# Altium footprint library WE-HCMD.PcbLib: 2 footprints
Each footprint in its own frame and in the unit in brackets; x right, y up, seen from the top. Pads: shape width x height; smd on the part's side, far side on the other; paste and mask are expansions set on the pad; w line width, h text height; cw(c..) or ccw(c..) is an arc to the next point about the centre after c.
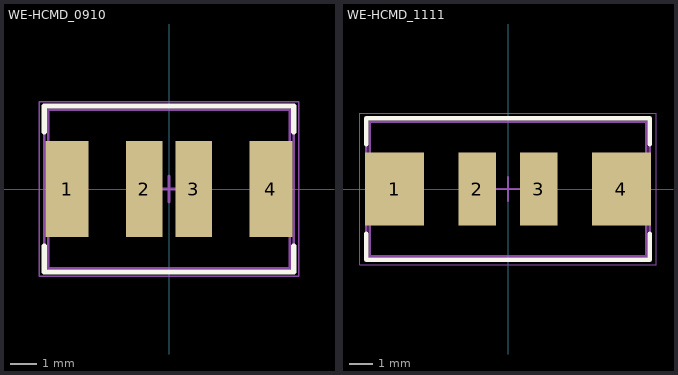
[diagram p0: the footprints below, top view; thin cyan lines are the x and y axes]

## WE-HCMD_0910 [mm] "SMT Power Inductor, body 9.30 x 6.10 mm"
height 10.2
pads (4):
  rect 1.65x3.7 smd: 1(-3.925,0) 4(3.925,0)
  rect 1.4x3.7 smd: 2(-0.95,0) 3(0.95,0)
Top Overlay:
  lines w0.2: -4.8,-2.2 -4.8,-3.2 4.8,-3.2 4.8,-2.2 ; -4.8,2.2 -4.8,3.2 4.8,3.2 4.8,2.2
Top Assembly:
  lines w0.1: -4.8,-3.2 -4.8,3.2 4.8,3.2 4.8,-3.2 -4.8,-3.2
Top Designator:
  text ".Designator" at -3.647,-0.357 h1
Top 3D Body:
  lines w0.1: -4.65,-3.05 4.65,-3.05 4.65,3.05 -4.65,3.05 -4.65,-3.05
Top Courtyard:
  lines w0.05: -5,-3.35 -5,3.35 5,3.35 5,-3.35 -5,-3.35
Top Component Center:
  lines w0.1: -0.5,0 0.5,0 ; 0,-0.5 0,0.5
3D body "7443000910070.stp": height 10.42, standoff 0.05, extent -4.65,-3.005 4.65,3.005

## WE-HCMD_1111 [mm] "SMT Power Inductor, body 11.70 x 5.70 mm"
height 11
pads (4):
  rect 2.5x3.1 smd: 1(-4.8,0) 4(4.8,0)
  rect 1.6x3.1 smd: 2(-1.3,0) 3(1.3,0)
Top Overlay:
  lines w0.2: -6,-1.9 -6,-3 6,-3 6,-1.9 ; -6,1.9 -6,3 6,3 6,1.9
Top Assembly:
  lines w0.1: -6,-3 -6,3 6,3 6,-3 -6,-3
Top Designator:
  text ".Designator" at -3.647,-0.357 h1
Top 3D Body:
  lines w0.1: -5.85,-2.85 -5.85,2.85 5.85,2.85 5.85,-2.85 -5.85,-2.85
Top Courtyard:
  lines w0.05: -6.275,-3.2 -6.275,3.2 6.275,3.2 6.275,-3.2 -6.275,-3.2
Top Component Center:
  lines w0.1: -0.5,0 0.5,0 ; 0,-0.5 0,0.5
3D body "7743001111070.stp": height 11.32, standoff 0.05, extent -5.85,-2.855 5.85,2.855